# Altium footprint library NIXIE_N.PcbLib: 69 footprints (part 1 of 5)
Each footprint in its own frame and in the unit in brackets; x right, y up, seen from the top. Pads: shape width x height; smd on the part's side, far side on the other; paste and mask are expansions set on the pad; w line width, h text height; cw(c..) or ccw(c..) is an arc to the next point about the centre after c.
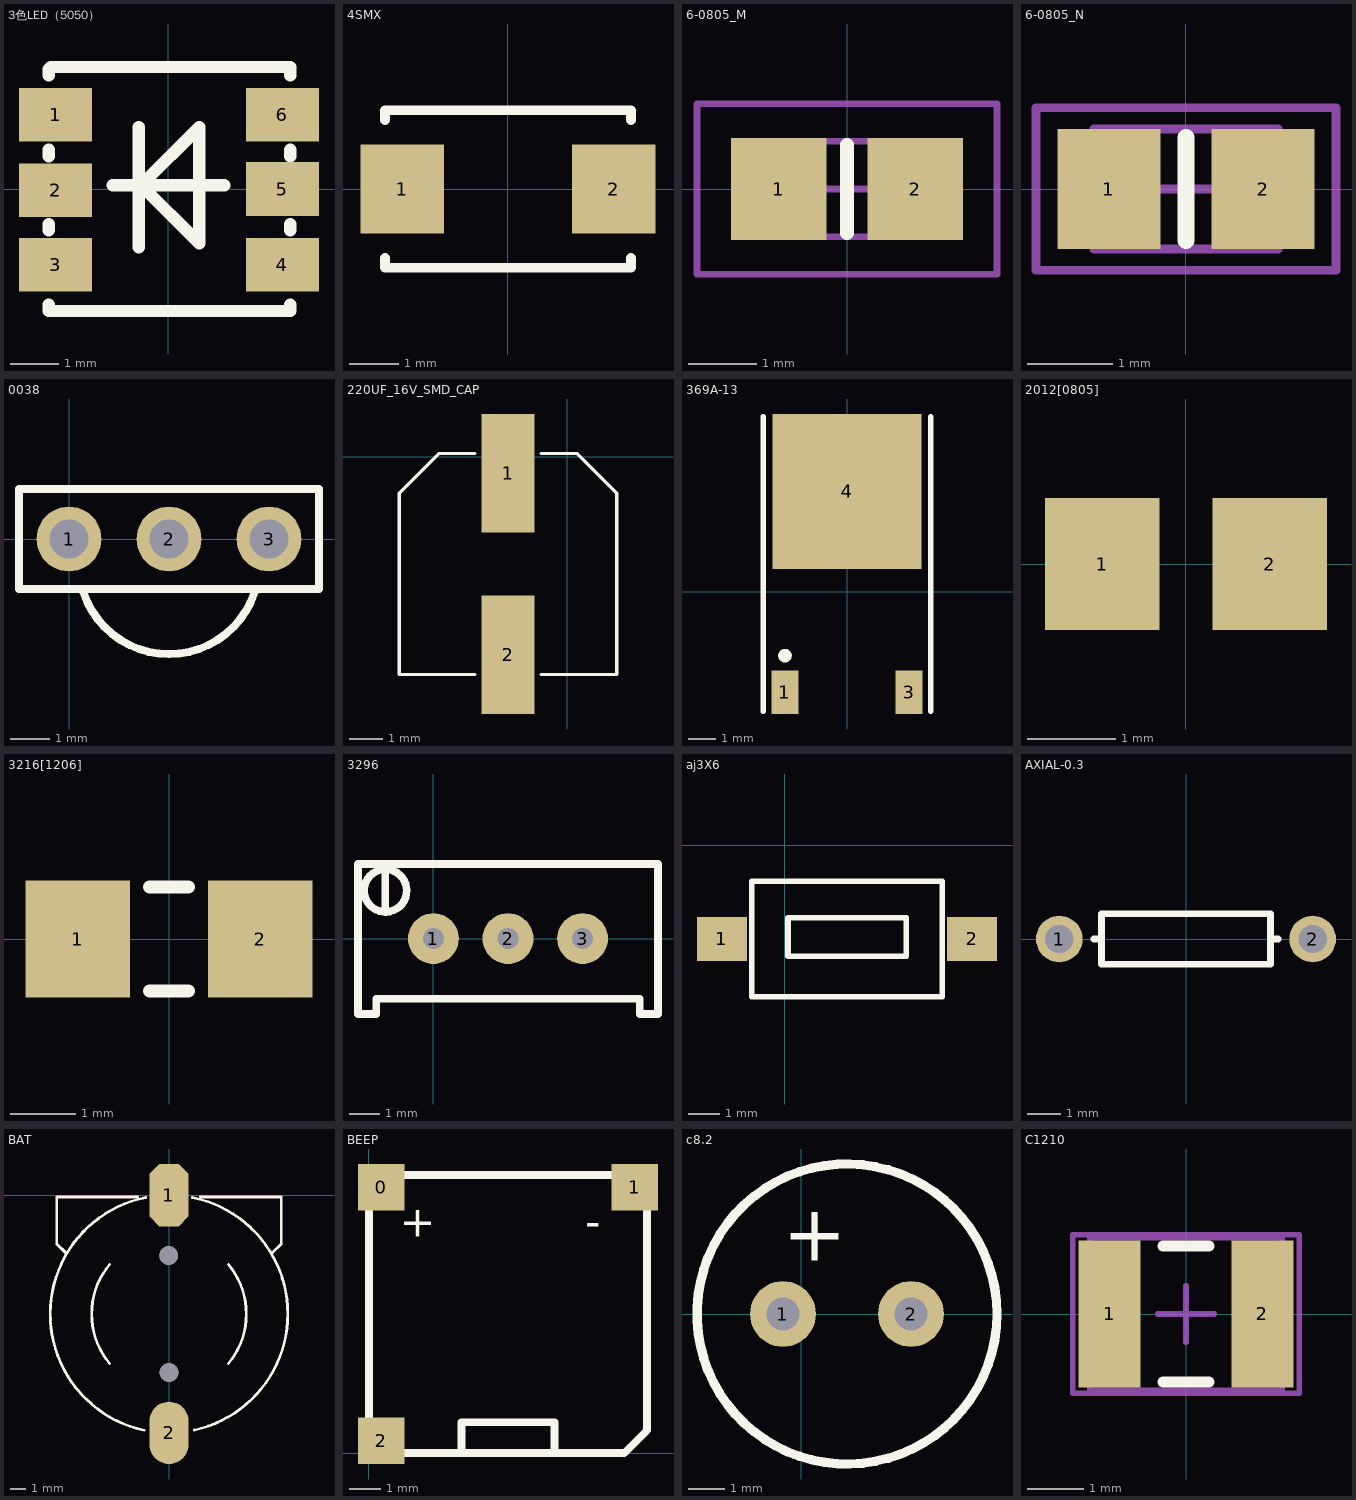
[diagram p0: the footprints below, top view; thin cyan lines are the x and y axes]

## 3色LED（5050） [mm]
height 0.762
pads (6):
  rect 1.5x1.1 smd: 1(-2.311,1.524) 2(-2.311,-0.025) 3(-2.311,-1.549) 4(2.337,-1.549) 5(2.337,0) 6(2.337,1.524)
Top Overlay:
  lines w0.254: -2.453,-2.5 -2.453,-2.373 ; -2.453,-0.849 -2.453,-0.722 ; -2.453,0.675 -2.453,0.802 ; -2.453,2.326 -2.453,2.453 ; -2.413,-2.5 2.5,-2.5 2.5,-2.373 ; -2.413,2.5 2.5,2.5 2.5,2.326 ; -1.143,0.076 1.143,0.076 ; -0.635,0.076 -0.559,0.076 ; -0.61,-1.194 -0.61,1.27 ; 2.5,-0.849 2.5,-0.722 ; 2.5,0.675 2.5,0.802 ; -0.559,0.076 0.635,1.27 0.635,-1.118 -0.559,0.076

## 4SMX [mm] "Quartz Crystal, SM; Body 5.2 x 3.4 mm (LxW max)"
height 1
pads (2):
  rect 1.7x1.8 smd: 1(-2.15,0) 2(2.15,0)
Top Overlay:
  lines w0.2: -2.5,-1.4 -2.5,-1.6 2.5,-1.6 2.5,-1.4 ; -2.5,1.4 -2.5,1.6 2.5,1.6 2.5,1.4

## 6-0805_M [mm] "Chip Resistor, Body 2.0x1.2mm, IPC Low Density"
height 0.7
pads (2):
  rect 1.4x1.5 smd: 1(-1,0) 2(1,0)
Top Overlay:
  lines w0.2: 0,-0.65 0,0.65
Mechanical 13:
  lines w0.1: -1.075,-0.7 -1.075,0.7 1.075,0.7 1.075,-0.7 -1.075,-0.7
Mechanical 15:
  lines w0.1: -0.5,0 0.5,0 ; 0,-0.5 0,0.5 ; -2.2,-1.25 -2.2,1.25 2.2,1.25 2.2,-1.25 -2.2,-1.25
3D body: height 0.7, standoff 0, extent -1.075,-0.7 1.075,0.7

## 6-0805_N [mm] "Chip Resistor, Body 2.0x1.2mm, IPC Medium Density"
height 0.7
pads (2):
  rect 1.2x1.4 smd: 1(-0.9,0) 2(0.9,0)
Top Overlay:
  lines w0.2: 0,-0.6 0,0.6
Mechanical 13:
  lines w0.1: -1.075,-0.7 1.075,-0.7 1.075,0.7 -1.075,0.7 -1.075,-0.7
Mechanical 15:
  lines w0.1: -0.5,0 0.5,0 ; 0,-0.5 0,0.5 ; -1.75,-0.95 1.75,-0.95 1.75,0.95 -1.75,0.95 -1.75,-0.95
3D body: height 0.7, standoff 0, extent -1.075,-0.7 1.075,0.7

## 0038 [mil]
pads (3):
  round 65 hole 39.37: 1(0,0) 2(100,0) 3(200,0)
Top Overlay:
  lines w8: 14.49,-53.5 ccw(c100,-25) 185.51,-53.5 ; -50,-50 250,-50 250,50 -50,50 -50,-50

## 220UF_16V_SMD_CAP [mm]
height 2.1
pads (2):
  rect 1.6x3.6 smd: 1(-1.8,-0.5) 2(-1.8,-6)
Top Overlay:
  lines w0.1: -2.8,-6.6 -5.1,-6.6 -5.1,-1.1 -3.9,0.1 -2.8,0.1 ; -0.8,-6.6 1.5,-6.6 1.5,-1.1 0.3,0.1 -0.8,0.1

## 369A-13 [mm] "D-PAK/TO-252-AA; 3 Leads (1 Cropped); Body 10.3 (inc. leads) x 6.7 mm (LxW max)"
height 2.38
pads (3):
  rect 1x1.6 smd: 1(-2.285,-3.7) 3(2.285,-3.7)
  rect 5.5x5.7 smd: 4(0,3.7)
Top Overlay:
  circle w0.25: c-2.285,-2.35 r0.125
  lines w0.2: -3.085,-4.4 -3.085,6.45 ; 3.085,-4.4 3.085,6.45

## 2012[0805] [mm] "Chip Resistor; Body 2.0 x 1.3 mm (LxW typ)"
height 2.54
pads (2):
  rect 1.3x1.5 smd: 1(-0.95,0) 2(0.95,0)

## 3216[1206] [mm] "Chip Resistor; Body 3.2 x 1.6 mm (LxW typ)"
height 0.71
pads (2):
  rect 1.6x1.8 smd: 1(-1.4,0) 2(1.4,0)
Top Overlay:
  lines w0.2: -0.3,-0.8 0.3,-0.8 ; -0.3,0.8 0.3,0.8

## 3296 [mm]
pads (3):
  round 1.7 hole 0.7: 1(0,0) 2(2.489,0) 3(4.978,0)
Top Overlay:
  circle w0.254: c-1.6,1.6 r0.711
  lines w0.254: -1.6,0.889 -1.6,2.286 ; -2.515,-2.515 -2.515,2.489 7.493,2.489 7.493,-2.515 6.883,-2.515 6.883,-2.007 -1.905,-2.007 -1.905,-2.515 -2.515,-2.515

## aj3X6 [mm]
height 1.2
pads (2):
  rect 1.6x1.4 smd: 1(-2.012,-3.002) 2(5.988,-3.002)
Top Overlay:
  lines w0.178: -1.062,-4.852 5.038,-4.852 5.038,-1.152 -1.062,-1.152 -1.062,-4.852 ; 0.1,-3.552 0.1,-2.327 3.888,-2.327 3.888,-3.552 0.1,-3.552

## AXIAL-0.3 [mm] "Axial Device, Thru-Hole; 2 Leads; 0.3 in Pin Spacing"
height 1.524
pads (2):
  round 1.4 hole 0.85: 1(-3.81,0) 2(3.81,0)
Top Overlay:
  lines w0.2: -2.769,0 -2.54,0 ; 2.769,0 2.54,0 ; 2.54,0 2.54,-0.762 -2.54,-0.762 -2.54,0.762 2.54,0.762 2.54,0

## BAT [mm]
height 1.2
pads (4):
  oct 2.5x4 smd: 1(-0.002,0.005)
  oval 2.5x4 smd: 2(-0.002,-15.235)
  round 1.2 hole 1.2 unplated: ""(-0.027,-3.865) ""(-0.002,-11.365)
Top Overlay:
  lines w0.178: -6.627,-3.69 -7.202,-3.115 -7.202,-0.115 -2.002,-0.115 ; -3.814,-10.787 cw(c-0.002,-7.615) -3.812,-4.44 ; -1.593,-15.067 cw(c-0.002,-7.615) -1.492,-0.142 ; 1.491,-0.143 cw(c-0.002,-7.615) 7.618,-7.615 cw(c-0.002,-7.615) 1.613,-15.062 ; 1.998,-0.115 7.198,-0.115 7.198,-3.115 6.598,-3.715 ; 3.81,-10.787 ccw(c-0.002,-7.615) 3.813,-4.446
3D body: height 1, standoff 0, extent -6.945,-14.352 7,-0.38

## BEEP [mm]
pads (3):
  rect 1.5x1.5 smd: 0(0.4,8.6) 1(8.6,8.6) 2(0.4,0.4)
Top Overlay:
  lines w0.254: 3,0 3,1 6,1 6,0 ; 0,0 8.255,0 9,0.745 9,9 0,9 0,0
  text "-" at 7,7 h1.02
  text "+" at 1,7 h1.02
3D body: height 3.5, standoff 0, extent 0.2,0.2 8.8,8.8

## c8.2 [mm]
height 2.1
pads (2):
  round 1.8 hole 0.9: 1(-0.5,0) 2(3,0)
Top Overlay:
  circle w0.254: c1.25,0 r4.1
  text "+" at -0.5,1.45 h1.52

## C1210 [mm] "Chip Capacitor, Body 3.2x2.5mm, IPC High Density"
height 1.3
pads (2):
  rect 1.1x2.6 smd: 1(-1.35,0) 2(1.35,0)
Top Overlay:
  lines w0.2: -0.4,-1.2 0.4,-1.2 ; -0.4,1.2 0.4,1.2
Mechanical 13:
  lines w0.1: -1.7,-1.35 -1.7,1.35 1.7,1.35 1.7,-1.35 -1.7,-1.35
Mechanical 15:
  lines w0.1: -0.5,0 0.5,0 ; 0,-0.5 0,0.5 ; -2,-1.4 -2,1.4 2,1.4 2,-1.4 -2,-1.4
3D body: height 1.3, standoff 0, extent -1.7,-1.35 1.7,1.35